# Altium schematic symbol library IC_DIG.SchLib: 1 symbol
Pins are listed as number, name and electrical type; pins without a type are passive.

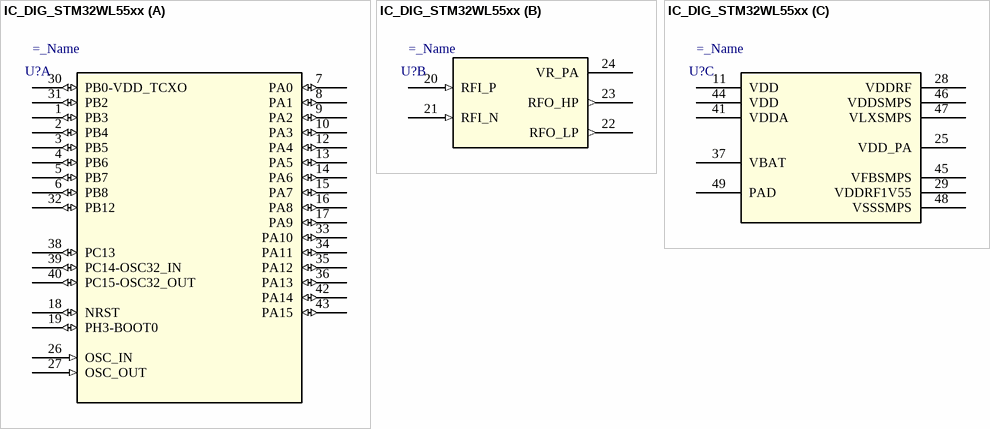
[diagram p0: symbol IC_DIG_STM32WL55xx]

## IC_DIG_STM32WL55xx
designator U?  (value not drawn)
=description; Value: =_Name
part A pins: 1 PB3 (io), 2 PB4 (io), 3 PB5 (io), 4 PB6 (io), 5 PB7 (io), 6 PB8 (io), 7 PA0 (io), 8 PA1 (io), 9 PA2 (io), 10 PA3 (io), 12 PA4 (io), 13 PA5 (io), 14 PA6 (io), 15 PA7 (io), 16 PA8 (io), 17 PA9 (io), 18 NRST (io), 19 PH3-BOOT0 (io), 26 OSC_IN (in), 27 OSC_OUT (in), 30 PB0-VDD_TCXO (io), 31 PB2 (io), 32 PB12 (io), 33 PA10 (io), 34 PA11 (io), 35 PA12 (io), 36 PA13 (io), 38 PC13 (io), 39 PC14-OSC32_IN (io), 40 PC15-OSC32_OUT (io), 42 PA14 (io), 43 PA15 (io)
part B pins: 20 RFI_P (in), 21 RFI_N (in), 22 RFO_LP (out), 23 RFO_HP (out), 24 VR_PA
part C pins: 11 VDD (power), 25 VDD_PA, 28 VDDRF, 29 VDDRF1V55, 37 VBAT, 41 VDDA, 44 VDD, 45 VFBSMPS, 46 VDDSMPS, 47 VLXSMPS, 48 VSSSMPS, 49 PAD